# EAGLE library part TX4138 (library BSB-LAN)
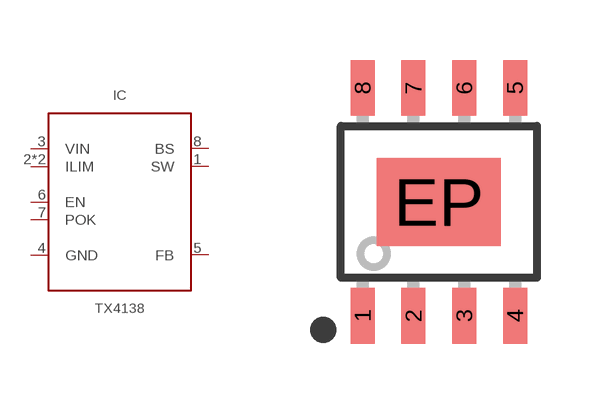
[diagram p3: symbol with the pads of SOIC8-EP; footprint SOIC8-EP]

Designator prefix IC

## TX4138  [SOIC8-EP]
1  SW  out
2  ILIM  pwr
3  VIN  pwr
4  GND  pwr
5  FB  in
6  EN  in
7  POK  out
8  BS  pwr
EP  ILIM  pwr

## Footprint SOIC8-EP (pad centres in mm)
smd 0.6 x 1.4: 1 -1.905,-2.85; 2 -0.635,-2.85; 3 0.635,-2.85; 4 1.905,-2.85; 5 1.905,2.85; 6 0.635,2.85; 7 -0.635,2.85; 8 -1.905,2.85
smd 3.1 x 2.2: EP 0,0